# Altium footprint library PCB-PCEIOT.PcbLib: 29 footprints (part 1 of 2)
Each footprint in its own frame and in the unit in brackets; x right, y up, seen from the top. Pads: shape width x height; smd on the part's side, far side on the other; paste and mask are expansions set on the pad; w line width, h text height; cw(c..) or ccw(c..) is an arc to the next point about the centre after c.
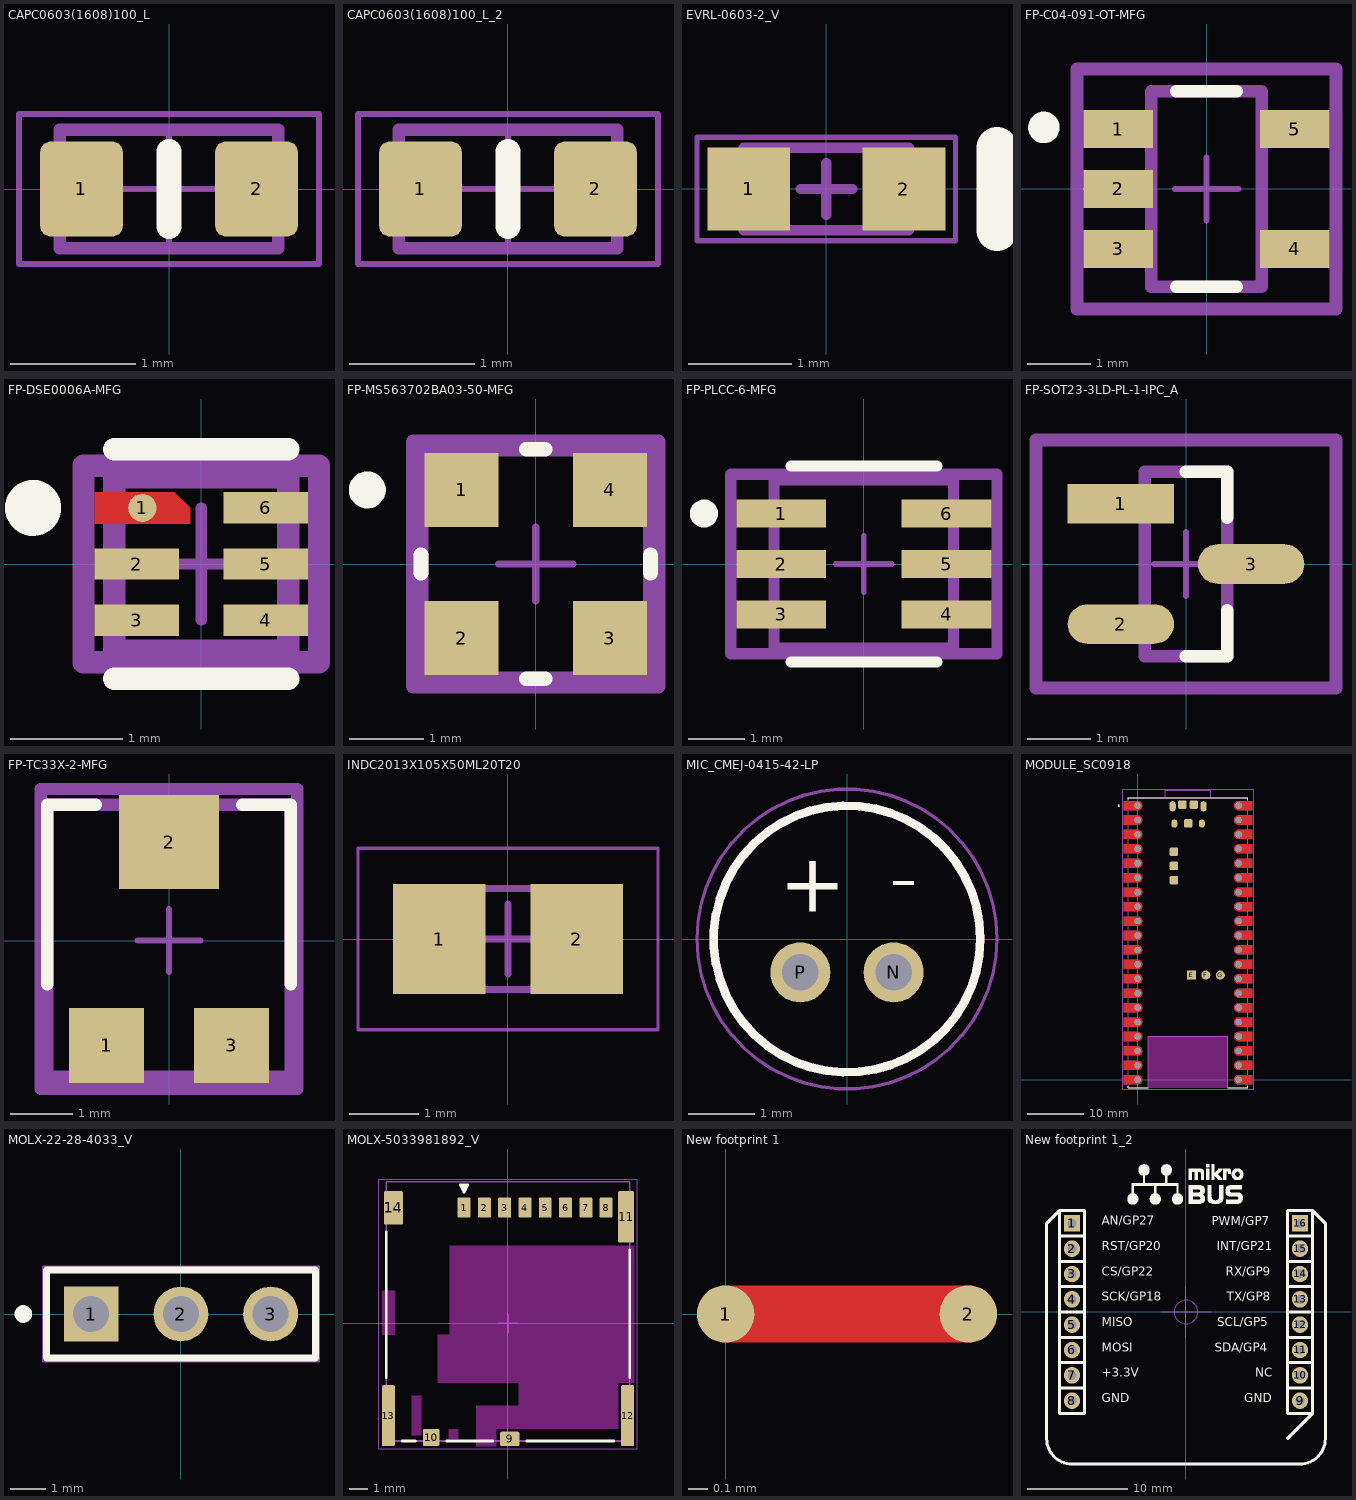
[diagram p0: the footprints below, top view; thin cyan lines are the x and y axes]

## CAPC0603(1608)100_L [mm] "Chip Capacitor, Body 1.6x0.8mm, Height 1.0mm, IPC High Density"
height 1
pads (2):
  rrect25% 0.66x0.76 smd: 1(-0.7,0) 2(0.7,0)
Top Overlay:
  lines w0.2: 0,-0.3 0,0.3
Top Courtyard:
  lines w0.05: -0.475,0 0.475,0 ; 0,-0.475 0,0.475 ; -1.2,-0.6 1.2,-0.6 1.2,0.6 -1.2,0.6 -1.2,-0.6
Top Assembly:
  lines w0.1: -0.875,-0.475 -0.875,0.475 0.875,0.475 0.875,-0.475 -0.875,-0.475
Top Designator:
  text ".Designator" at -1.27,-0.127 h0.6
3D body "CAPC1608X95N EIA 0603.STEP": height 0.95, standoff 0, extent -0.8,-0.4 0.8,0.4

## CAPC0603(1608)100_L_2 [mm]
pads (2):
  rrect25% 0.66x0.76 smd: 1(-0.7,0) 2(0.7,0)
Top Overlay:
  lines w0.2: 0,-0.3 0,0.3
Top Courtyard:
  lines w0.05: -0.475,0 0.475,0 ; 0,-0.475 0,0.475 ; -1.2,-0.6 1.2,-0.6 1.2,0.6 -1.2,0.6 -1.2,-0.6
Top Assembly:
  lines w0.1: -0.875,-0.475 -0.875,0.475 0.875,0.475 0.875,-0.475 -0.875,-0.475
Top Designator:
  text ".Designator" at -1.27,-0.127 h1.5
3D body "CAPC1608X95N EIA 0603.STEP": height 0.95, standoff 0, extent -0.8,-0.4 0.8,0.4

## EVRL-0603-2_V [mm] "SMD, 2-Leads, Body 1.6x0.8mm"
height 0.5
pads (2):
  rect 0.8x0.8 smd: 1(-0.75,0) 2(0.75,0)
Top Overlay:
  lines w0.4: 1.65,-0.4 1.65,0.4
Mechanical 13:
  lines w0.1: -0.8,-0.4 0.8,-0.4 0.8,0.4 -0.8,0.4 -0.8,-0.4
Mechanical 15:
  lines w0.05: -1.25,-0.5 1.25,-0.5 1.25,0.5 -1.25,0.5 -1.25,-0.5
  lines w0.1: -0.25,0 0.25,0 ; 0,-0.25 0,0.25
3D body: height 0.15, standoff 0, extent -0.8,-0.4 0.8,0.4
3D body: height 0.5, standoff 0, extent -0.5,-0.4 0.5,0.4

## FP-C04-091-OT-MFG [mm]
height 0.6
pads (5):
  rect 1.1x0.6 smd paste+0 mask+0: 1(-1.4,0.95) 2(-1.4,0) 3(-1.4,-0.95) 4(1.4,-0.95) 5(1.4,0.95)
Top Overlay:
  circle w0.25: c-2.575,0.975 r0.125
  lines w0.2: -0.475,-1.55 0.475,-1.55 ; -0.475,1.55 0.475,1.55
Top 3D Body:
  lines w0.2: -0.875,-1.55 -0.875,1.55 0.875,1.55 0.875,-1.55 -0.875,-1.55
Top Courtyard:
  lines w0.2: -2.05,-1.9 -2.05,1.9 2.05,1.9 2.05,-1.9 -2.05,-1.9
Top Assembly:
  lines w0.2: -2.05,-1.9 -2.05,1.9 2.05,1.9 2.05,-1.9 -2.05,-1.9
  text ".Designator" at 0,-0.884 h1
Top Component Center:
  lines w0.1: -0.5,0 0.5,0 ; 0,-0.5 0,0.5
3D body "SOT-23-5_MC_MCH.step": height 1.45, standoff 0, extent -1.6,-1.549 1.6,1.549

## FP-DSE0006A-MFG [mm]
height 0.6
pads (6):
  round 0.252 smd paste-1000 mask+0: 1(-0.525,0.5)
  rect 0.75x0.28 smd paste-1000 mask+0: 2(-0.575,0) 3(-0.575,-0.5) 4(0.575,-0.5) 5(0.575,0) 6(0.575,0.5)
Top Layer:
  region: -0.95,0.64 -0.24,0.64 -0.1,0.5 -0.1,0.36 -0.95,0.36
Top Overlay:
  circle w0.25: c-1.5,0.5 r0.125
  lines w0.2: -0.775,-1.025 0.775,-1.025 ; -0.775,1.025 0.775,1.025
Top Paste:
  rectangle: -0.925,0.385 -0.225,0.615
  rectangle: -0.925,-0.115 -0.225,0.115
  rectangle: -0.925,-0.615 -0.225,-0.385
  rectangle: 0.225,0.385 0.925,0.615
  rectangle: 0.225,-0.115 0.925,0.115
  rectangle: 0.225,-0.615 0.925,-0.385
Top 3D Body:
  lines w0.2: -0.775,-0.775 -0.775,0.775 0.775,0.775 0.775,-0.775 -0.775,-0.775
Top Courtyard:
  lines w0.2: -1.05,-0.875 -1.05,0.875 1.05,0.875 1.05,-0.875 -1.05,-0.875
Top Assembly:
  lines w0.2: -1.05,-0.875 -1.05,0.875 1.05,0.875 1.05,-0.875 -1.05,-0.875
  text ".Designator" at 0,-0.695 h1
Top Component Center:
  lines w0.1: -0.5,0 0.5,0 ; 0,-0.5 0,0.5
3D body "IC_Texas_Instruments_BQ29700DSET_eec.STEP": height 0.25, standoff 0, extent -1.05,-0.875 1.05,0.875

## FP-MS563702BA03-50-MFG [mm]
pads (4):
  rect 1x1 smd paste+0 mask+0.001: 1(-1,1) 2(-1,-1) 3(1,-1) 4(1,1)
Top Overlay:
  circle w0.25: c-2.275,1 r0.125
  lines w0.2: -1.55,-0.125 -1.55,0.125 ; -0.125,-1.55 0.125,-1.55 ; -0.125,1.55 0.125,1.55 ; 1.55,-0.125 1.55,0.125
Top 3D Body:
  lines w0.2: -1.55,-1.55 1.55,-1.55 1.55,1.55 -1.55,1.55 -1.55,-1.55
Top Courtyard:
  lines w0.2: -1.65,-1.65 1.65,-1.65 1.65,1.65 -1.65,1.65 -1.65,-1.65
Top Assembly:
  lines w0.2: -1.65,-1.65 1.65,-1.65 1.65,1.65 -1.65,1.65 -1.65,-1.65
  text ".Designator" at 0,0.188 h1
Top Component Center:
  lines w0.1: -0.5,0 0.5,0 ; 0,-0.5 0,0.5
3D body "IC_Measurement_Specialties_MS563702BA03-50_eec.STEP": height 0.25, standoff 0, extent -1.65,-1.65 1.65,1.65

## FP-PLCC-6-MFG [mm]
pads (6):
  rect 1.6x0.5 smd paste+0 mask+0.05: 1(-1.475,0.9) 2(-1.475,0) 3(-1.475,-0.9) 4(1.475,-0.9) 5(1.475,0) 6(1.475,0.9)
Top Overlay:
  circle w0.25: c-2.85,0.9 r0.125
  lines w0.2: -1.3,-1.75 1.3,-1.75 ; -1.3,1.75 1.3,1.75
Top 3D Body:
  lines w0.2: -1.6,-1.5 -1.6,1.5 1.6,1.5 1.6,-1.5 -1.6,-1.5
Top Courtyard:
  lines w0.2: -2.375,-1.6 -2.375,1.6 2.375,1.6 2.375,-1.6 -2.375,-1.6
Top Assembly:
  lines w0.2: -2.375,-1.6 -2.375,1.6 2.375,1.6 2.375,-1.6 -2.375,-1.6
  text ".Designator" at 0,0.188 h1
Top Component Center:
  lines w0.1: -0.5,0 0.5,0 ; 0,-0.5 0,0.5
3D body "Diode_Broadcom_ASMT-YTD7-0AA02_eec.STEP": height 0.25, standoff 0, extent -2.375,-1.6 2.375,1.6

## FP-SOT23-3LD-PL-1-IPC_A [mm]
pads (3):
  rect 1.684x0.627 smd paste+0 mask+0: 1(-1.03,0.95)
  rrect100% 1.684x0.627 smd paste+0 mask+0: 2(-1.03,-0.95) 3(1.03,0)
Top Overlay:
  lines w0.2: 0,-1.46 0.65,-1.46 0.65,-0.73 ; 0,1.46 0.65,1.46 0.65,0.73
Top 3D Body:
  lines w0.2: -0.65,-1.46 0.65,-1.46 0.65,1.46 -0.65,1.46 -0.65,-1.46
Top Courtyard:
  lines w0.2: -2.372,-1.96 2.372,-1.96 2.372,1.96 -2.372,1.96 -2.372,-1.96
Top Assembly:
  lines w0.2: -2.372,-1.96 2.372,-1.96 2.372,1.96 -2.372,1.96 -2.372,-1.96
  text ".Designator" at 0,0 h1
Top Component Center:
  lines w0.1: -0.5,0 0.5,0 ; 0,-0.5 0,0.5
3D body "IC_Microchip_LM4040DYM3-2_5-TR_eec.STEP": height 0.25, standoff 0, extent -2.372,-1.96 2.372,1.96

## FP-TC33X-2-MFG [mm]
height 0.6
pads (3):
  rect 1.2x1.2 smd paste+0 mask+0: 1(-1,-1.675) 3(1,-1.675)
  rect 1.6x1.5 smd paste+0 mask+0: 2(0,1.575)
Top Overlay:
  lines w0.2: -1.95,-0.7 -1.95,2.175 -1.175,2.175 ; 1.175,2.175 1.95,2.175 1.95,-0.7
Top 3D Body:
  lines w0.2: -1.95,-2.175 1.95,-2.175 1.95,2.175 -1.95,2.175 -1.95,-2.175
Top Courtyard:
  lines w0.2: -2.05,-2.375 2.05,-2.375 2.05,2.425 -2.05,2.425 -2.05,-2.375
Top Assembly:
  lines w0.2: -2.05,-2.375 2.05,-2.375 2.05,2.425 -2.05,2.425 -2.05,-2.375
  text ".Designator" at 0,0.024 h1
Top Component Center:
  lines w0.1: -0.5,0 0.5,0 ; 0,-0.5 0,0.5
3D body "Res_Bourns_TC33X-2-104E_eec.STEP": height 1.5, standoff 0, extent -1.8,-1.9 1.8,1.9

## INDC2013X105X50ML20T20 [mm] "Chip Inductor, 2-Leads, Body 2.2x1.45mm, IPC Low Density"
height 1.05
pads (2):
  rect 1.33x1.57 smd: 1(-0.985,0) 2(0.985,0)
Mechanical 13:
  lines w0.1: -1.1,-0.725 1.1,-0.725 1.1,0.725 -1.1,0.725 -1.1,-0.725
Mechanical 15:
  lines w0.05: -2.15,-1.3 2.15,-1.3 2.15,1.3 -2.15,1.3 -2.15,-1.3
  lines w0.1: -0.5,0 0.5,0 ; 0,-0.5 0,0.5
3D body "INDC2013X11M.step": height 1.05, standoff 0, extent -1.1,-0.725 1.1,0.725

## MIC_CMEJ-0415-42-LP [mm]
height 1.7
pads (2):
  round 0.9 hole 0.55: N(0.7,-0.5) P(-0.7,-0.5)
Top Overlay:
  circle w0.127: c0,0 r2
  text "-" at 0.635,0.254 h1.5
  text "+" at -1.016,0.127 h1.5
Mechanical 13:
  circle w0.127: c0,0 r2
Mechanical 15:
  circle w0.05: c0,0 r2.25
3D body "CUI_DEVICES_CMEJ-0415-42-LP.step": height 1.88, standoff -2.67, extent -1.997,-1.995 1.997,2.005

## MODULE_SC0918 [mm]
height 3.6
pads (53):
  round 1.125 hole 1.1 paste+0: 1(0,48.26) 2(0,45.72) 3(0,43.18) 4(0,40.64) 5(0,38.1) 6(0,35.56) 7(0,33.02) 8(0,30.48) 9(0,27.94) 10(0,25.4) 11(0,22.86) 12(0,20.32) 13(0,17.78) 14(0,15.24) 15(0,12.7) 16(0,10.16) 17(0,7.62) 18(0,5.08) 19(0,2.54) 20(0,0) 21(17.78,0) 22(17.78,2.54) 23(17.78,5.08) 24(17.78,7.62) 25(17.78,10.16) 26(17.78,12.7) 27(17.78,15.24) 28(17.78,17.78) 29(17.78,20.32) 30(17.78,22.86) 31(17.78,25.4) 32(17.78,27.94) 33(17.78,30.48) 34(17.78,33.02) 35(17.78,35.56) 36(17.78,38.1) 37(17.78,40.64) 38(17.78,43.18) 39(17.78,45.72) 40(17.78,48.26)
  oval 1.1x1.8 smd: A(6.168,48.128) B(11.618,48.128)
  oval 1.05x1.45 smd: C(6.468,45.098) D(11.318,45.098)
  rect 1.575x1.575 smd: E(9.477,18.428)
  round 1.575 smd: F(12.017,18.428) G(14.557,18.428)
  rrect40% 1.5x1.5 smd: TP1(8.893,45.128) TP2(9.893,48.428) TP3(7.893,48.428) TP4(6.393,40.128) TP5(6.393,37.628) TP6(6.393,35.128)
Top Layer:
  region: 17.78,13.5 20.177,13.502 20.177,11.902 17.78,11.9 17.728,11.9 17.624,11.914 17.522,11.941 17.425,11.981 17.335,12.033 17.251,12.097 17.177,12.171 17.113,12.255 17.061,12.345 17.021,12.442 16.994,12.544 16.98,12.648 16.98,12.7 16.98,12.752 16.994,12.856 17.021,12.958 17.061,13.055 17.113,13.145 17.177,13.229 17.251,13.303 17.335,13.367 17.425,13.419 17.522,13.459 17.624,13.486 17.728,13.5
  region: 17.78,10.96 20.177,10.962 20.177,9.362 17.78,9.36 17.728,9.36 17.624,9.374 17.522,9.401 17.425,9.441 17.335,9.493 17.251,9.557 17.177,9.631 17.113,9.715 17.061,9.805 17.021,9.902 16.994,10.004 16.98,10.108 16.98,10.16 16.98,10.212 16.994,10.316 17.021,10.418 17.061,10.515 17.113,10.605 17.177,10.689 17.251,10.763 17.335,10.827 17.425,10.879 17.522,10.919 17.624,10.946 17.728,10.96
  region: 17.78,8.42 20.177,8.422 20.177,6.822 17.78,6.82 17.728,6.82 17.624,6.834 17.522,6.861 17.425,6.901 17.335,6.953 17.251,7.017 17.177,7.091 17.113,7.175 17.061,7.265 17.021,7.362 16.994,7.464 16.98,7.568 16.98,7.62 16.98,7.672 16.994,7.776 17.021,7.878 17.061,7.975 17.113,8.065 17.177,8.149 17.251,8.223 17.335,8.287 17.425,8.339 17.522,8.379 17.624,8.406 17.728,8.42
  region: 17.78,5.88 20.177,5.882 20.177,4.282 17.78,4.28 17.728,4.28 17.624,4.294 17.522,4.321 17.425,4.361 17.335,4.413 17.251,4.477 17.177,4.551 17.113,4.635 17.061,4.725 17.021,4.822 16.994,4.924 16.98,5.028 16.98,5.08 16.98,5.132 16.994,5.236 17.021,5.338 17.061,5.435 17.113,5.525 17.177,5.609 17.251,5.683 17.335,5.747 17.425,5.799 17.522,5.839 17.624,5.866 17.728,5.88
  region: 17.78,3.34 20.177,3.342 20.177,1.742 17.78,1.74 17.728,1.74 17.624,1.754 17.522,1.781 17.425,1.821 17.335,1.873 17.251,1.937 17.177,2.011 17.113,2.095 17.061,2.185 17.021,2.282 16.994,2.384 16.98,2.488 16.98,2.54 16.98,2.592 16.994,2.696 17.021,2.798 17.061,2.895 17.113,2.985 17.177,3.069 17.251,3.143 17.335,3.207 17.425,3.259 17.522,3.299 17.624,3.326 17.728,3.34
  region: 0,-0.8 -2.397,-0.802 -2.397,0.798 0,0.8 0.052,0.8 0.156,0.786 0.258,0.759 0.355,0.719 0.445,0.667 0.529,0.603 0.603,0.529 0.667,0.445 0.719,0.355 0.759,0.258 0.786,0.156 0.8,0.052 0.8,0 0.8,-0.052 0.786,-0.156 0.759,-0.258 0.719,-0.355 0.667,-0.445 0.603,-0.529 0.529,-0.603 0.445,-0.667 0.355,-0.719 0.258,-0.759 0.156,-0.786 0.052,-0.8
  region: 0,1.74 -2.397,1.738 -2.397,3.338 0,3.34 0.052,3.34 0.156,3.326 0.258,3.299 0.355,3.259 0.445,3.207 0.529,3.143 0.603,3.069 0.667,2.985 0.719,2.895 0.759,2.798 0.786,2.696 0.8,2.592 0.8,2.54 0.8,2.488 0.786,2.384 0.759,2.282 0.719,2.185 0.667,2.095 0.603,2.011 0.529,1.937 0.445,1.873 0.355,1.821 0.258,1.781 0.156,1.754 0.052,1.74
  region: 0,4.28 -2.397,4.278 -2.397,5.878 0,5.88 0.052,5.88 0.156,5.866 0.258,5.839 0.355,5.799 0.445,5.747 0.529,5.683 0.603,5.609 0.667,5.525 0.719,5.435 0.759,5.338 0.786,5.236 0.8,5.132 0.8,5.08 0.8,5.028 0.786,4.924 0.759,4.822 0.719,4.725 0.667,4.635 0.603,4.551 0.529,4.477 0.445,4.413 0.355,4.361 0.258,4.321 0.156,4.294 0.052,4.28
  region: 0,6.82 -2.397,6.818 -2.397,8.418 0,8.42 0.052,8.42 0.156,8.406 0.258,8.379 0.355,8.339 0.445,8.287 0.529,8.223 0.603,8.149 0.667,8.065 0.719,7.975 0.759,7.878 0.786,7.776 0.8,7.672 0.8,7.62 0.8,7.568 0.786,7.464 0.759,7.362 0.719,7.265 0.667,7.175 0.603,7.091 0.529,7.017 0.445,6.953 0.355,6.901 0.258,6.861 0.156,6.834 0.052,6.82
  region: 0,9.36 -2.397,9.358 -2.397,10.958 0,10.96 0.052,10.96 0.156,10.946 0.258,10.919 0.355,10.879 0.445,10.827 0.529,10.763 0.603,10.689 0.667,10.605 0.719,10.515 0.759,10.418 0.786,10.316 0.8,10.212 0.8,10.16 0.8,10.108 0.786,10.004 0.759,9.902 0.719,9.805 0.667,9.715 0.603,9.631 0.529,9.557 0.445,9.493 0.355,9.441 0.258,9.401 0.156,9.374 0.052,9.36
  region: 0,11.9 -2.397,11.898 -2.397,13.498 0,13.5 0.052,13.5 0.156,13.486 0.258,13.459 0.355,13.419 0.445,13.367 0.529,13.303 0.603,13.229 0.667,13.145 0.719,13.055 0.759,12.958 0.786,12.856 0.8,12.752 0.8,12.7 0.8,12.648 0.786,12.544 0.759,12.442 0.719,12.345 0.667,12.255 0.603,12.171 0.529,12.097 0.445,12.033 0.355,11.981 0.258,11.941 0.156,11.914 0.052,11.9
  region: 0,14.44 -2.397,14.438 -2.397,16.038 0,16.04 0.052,16.04 0.156,16.026 0.258,15.999 0.355,15.959 0.445,15.907 0.529,15.843 0.603,15.769 0.667,15.685 0.719,15.595 0.759,15.498 0.786,15.396 0.8,15.292 0.8,15.24 0.8,15.188 0.786,15.084 0.759,14.982 0.719,14.885 0.667,14.795 0.603,14.711 0.529,14.637 0.445,14.573 0.355,14.521 0.258,14.481 0.156,14.454 0.052,14.44
  region: 0,16.98 -2.397,16.978 -2.397,18.578 0,18.58 0.052,18.58 0.156,18.566 0.258,18.539 0.355,18.499 0.445,18.447 0.529,18.383 0.603,18.309 0.667,18.225 0.719,18.135 0.759,18.038 0.786,17.936 0.8,17.832 0.8,17.78 0.8,17.728 0.786,17.624 0.759,17.522 0.719,17.425 0.667,17.335 0.603,17.251 0.529,17.177 0.445,17.113 0.355,17.061 0.258,17.021 0.156,16.994 0.052,16.98
  region: 0,19.52 -2.397,19.518 -2.397,21.118 0,21.12 0.052,21.12 0.156,21.106 0.258,21.079 0.355,21.039 0.445,20.987 0.529,20.923 0.603,20.849 0.667,20.765 0.719,20.675 0.759,20.578 0.786,20.476 0.8,20.372 0.8,20.32 0.8,20.268 0.786,20.164 0.759,20.062 0.719,19.965 0.667,19.875 0.603,19.791 0.529,19.717 0.445,19.653 0.355,19.601 0.258,19.561 0.156,19.534 0.052,19.52
  region: 0,22.06 -2.397,22.058 -2.397,23.658 0,23.66 0.052,23.66 0.156,23.646 0.258,23.619 0.355,23.579 0.445,23.527 0.529,23.463 0.603,23.389 0.667,23.305 0.719,23.215 0.759,23.118 0.786,23.016 0.8,22.912 0.8,22.86 0.8,22.808 0.786,22.704 0.759,22.602 0.719,22.505 0.667,22.415 0.603,22.331 0.529,22.257 0.445,22.193 0.355,22.141 0.258,22.101 0.156,22.074 0.052,22.06
  region: 0,24.6 -2.397,24.598 -2.397,26.198 0,26.2 0.052,26.2 0.156,26.186 0.258,26.159 0.355,26.119 0.445,26.067 0.529,26.003 0.603,25.929 0.667,25.845 0.719,25.755 0.759,25.658 0.786,25.556 0.8,25.452 0.8,25.4 0.8,25.348 0.786,25.244 0.759,25.142 0.719,25.045 0.667,24.955 0.603,24.871 0.529,24.797 0.445,24.733 0.355,24.681 0.258,24.641 0.156,24.614 0.052,24.6
  region: 0,27.14 -2.397,27.138 -2.397,28.738 0,28.74 0.052,28.74 0.156,28.726 0.258,28.699 0.355,28.659 0.445,28.607 0.529,28.543 0.603,28.469 0.667,28.385 0.719,28.295 0.759,28.198 0.786,28.096 0.8,27.992 0.8,27.94 0.8,27.888 0.786,27.784 0.759,27.682 0.719,27.585 0.667,27.495 0.603,27.411 0.529,27.337 0.445,27.273 0.355,27.221 0.258,27.181 0.156,27.154 0.052,27.14
  region: 0,29.68 -2.397,29.678 -2.397,31.278 0,31.28 0.052,31.28 0.156,31.266 0.258,31.239 0.355,31.199 0.445,31.147 0.529,31.083 0.603,31.009 0.667,30.925 0.719,30.835 0.759,30.738 0.786,30.636 0.8,30.532 0.8,30.48 0.8,30.428 0.786,30.324 0.759,30.222 0.719,30.125 0.667,30.035 0.603,29.951 0.529,29.877 0.445,29.813 0.355,29.761 0.258,29.721 0.156,29.694 0.052,29.68
  region: 0,32.22 -2.397,32.218 -2.397,33.818 0,33.82 0.052,33.82 0.156,33.806 0.258,33.779 0.355,33.739 0.445,33.687 0.529,33.623 0.603,33.549 0.667,33.465 0.719,33.375 0.759,33.278 0.786,33.176 0.8,33.072 0.8,33.02 0.8,32.968 0.786,32.864 0.759,32.762 0.719,32.665 0.667,32.575 0.603,32.491 0.529,32.417 0.445,32.353 0.355,32.301 0.258,32.261 0.156,32.234 0.052,32.22
  region: 0,34.76 -2.397,34.758 -2.397,36.358 0,36.36 0.052,36.36 0.156,36.346 0.258,36.319 0.355,36.279 0.445,36.227 0.529,36.163 0.603,36.089 0.667,36.005 0.719,35.915 0.759,35.818 0.786,35.716 0.8,35.612 0.8,35.56 0.8,35.508 0.786,35.404 0.759,35.302 0.719,35.205 0.667,35.115 0.603,35.031 0.529,34.957 0.445,34.893 0.355,34.841 0.258,34.801 0.156,34.774 0.052,34.76
  region: 0,37.3 -2.397,37.298 -2.397,38.898 0,38.9 0.052,38.9 0.156,38.886 0.258,38.859 0.355,38.819 0.445,38.767 0.529,38.703 0.603,38.629 0.667,38.545 0.719,38.455 0.759,38.358 0.786,38.256 0.8,38.152 0.8,38.1 0.8,38.048 0.786,37.944 0.759,37.842 0.719,37.745 0.667,37.655 0.603,37.571 0.529,37.497 0.445,37.433 0.355,37.381 0.258,37.341 0.156,37.314 0.052,37.3
  region: 0,39.84 -2.397,39.838 -2.397,41.438 0,41.44 0.052,41.44 0.156,41.426 0.258,41.399 0.355,41.359 0.445,41.307 0.529,41.243 0.603,41.169 0.667,41.085 0.719,40.995 0.759,40.898 0.786,40.796 0.8,40.692 0.8,40.64 0.8,40.588 0.786,40.484 0.759,40.382 0.719,40.285 0.667,40.195 0.603,40.111 0.529,40.037 0.445,39.973 0.355,39.921 0.258,39.881 0.156,39.854 0.052,39.84
  region: 0,42.38 -2.397,42.378 -2.397,43.978 0,43.98 0.052,43.98 0.156,43.966 0.258,43.939 0.355,43.899 0.445,43.847 0.529,43.783 0.603,43.709 0.667,43.625 0.719,43.535 0.759,43.438 0.786,43.336 0.8,43.232 0.8,43.18 0.8,43.128 0.786,43.024 0.759,42.922 0.719,42.825 0.667,42.735 0.603,42.651 0.529,42.577 0.445,42.513 0.355,42.461 0.258,42.421 0.156,42.394 0.052,42.38
  region: 0,44.92 -2.397,44.918 -2.397,46.518 0,46.52 0.052,46.52 0.156,46.506 0.258,46.479 0.355,46.439 0.445,46.387 0.529,46.323 0.603,46.249 0.667,46.165 0.719,46.075 0.759,45.978 0.786,45.876 0.8,45.772 0.8,45.72 0.8,45.668 0.786,45.564 0.759,45.462 0.719,45.365 0.667,45.275 0.603,45.191 0.529,45.117 0.445,45.053 0.355,45.001 0.258,44.961 0.156,44.934 0.052,44.92
  region: 17.78,16.04 20.177,16.042 20.177,14.442 17.78,14.44 17.728,14.44 17.624,14.454 17.522,14.481 17.425,14.521 17.335,14.573 17.251,14.637 17.177,14.711 17.113,14.795 17.061,14.885 17.021,14.982 16.994,15.084 16.98,15.188 16.98,15.24 16.98,15.292 16.994,15.396 17.021,15.498 17.061,15.595 17.113,15.685 17.177,15.769 17.251,15.843 17.335,15.907 17.425,15.959 17.522,15.999 17.624,16.026 17.728,16.04
  region: 17.78,18.58 20.177,18.582 20.177,16.982 17.78,16.98 17.728,16.98 17.624,16.994 17.522,17.021 17.425,17.061 17.335,17.113 17.251,17.177 17.177,17.251 17.113,17.335 17.061,17.425 17.021,17.522 16.994,17.624 16.98,17.728 16.98,17.78 16.98,17.832 16.994,17.936 17.021,18.038 17.061,18.135 17.113,18.225 17.177,18.309 17.251,18.383 17.335,18.447 17.425,18.499 17.522,18.539 17.624,18.566 17.728,18.58
  region: 17.78,21.12 20.177,21.122 20.177,19.522 17.78,19.52 17.728,19.52 17.624,19.534 17.522,19.561 17.425,19.601 17.335,19.653 17.251,19.717 17.177,19.791 17.113,19.875 17.061,19.965 17.021,20.062 16.994,20.164 16.98,20.268 16.98,20.32 16.98,20.372 16.994,20.476 17.021,20.578 17.061,20.675 17.113,20.765 17.177,20.849 17.251,20.923 17.335,20.987 17.425,21.039 17.522,21.079 17.624,21.106 17.728,21.12
  region: 17.78,23.66 20.177,23.662 20.177,22.062 17.78,22.06 17.728,22.06 17.624,22.074 17.522,22.101 17.425,22.141 17.335,22.193 17.251,22.257 17.177,22.331 17.113,22.415 17.061,22.505 17.021,22.602 16.994,22.704 16.98,22.808 16.98,22.86 16.98,22.912 16.994,23.016 17.021,23.118 17.061,23.215 17.113,23.305 17.177,23.389 17.251,23.463 17.335,23.527 17.425,23.579 17.522,23.619 17.624,23.646 17.728,23.66
  region: 17.78,26.2 20.177,26.202 20.177,24.602 17.78,24.6 17.728,24.6 17.624,24.614 17.522,24.641 17.425,24.681 17.335,24.733 17.251,24.797 17.177,24.871 17.113,24.955 17.061,25.045 17.021,25.142 16.994,25.244 16.98,25.348 16.98,25.4 16.98,25.452 16.994,25.556 17.021,25.658 17.061,25.755 17.113,25.845 17.177,25.929 17.251,26.003 17.335,26.067 17.425,26.119 17.522,26.159 17.624,26.186 17.728,26.2
  region: 17.78,28.74 20.177,28.742 20.177,27.142 17.78,27.14 17.728,27.14 17.624,27.154 17.522,27.181 17.425,27.221 17.335,27.273 17.251,27.337 17.177,27.411 17.113,27.495 17.061,27.585 17.021,27.682 16.994,27.784 16.98,27.888 16.98,27.94 16.98,27.992 16.994,28.096 17.021,28.198 17.061,28.295 17.113,28.385 17.177,28.469 17.251,28.543 17.335,28.607 17.425,28.659 17.522,28.699 17.624,28.726 17.728,28.74
  region: 17.78,31.28 20.177,31.282 20.177,29.682 17.78,29.68 17.728,29.68 17.624,29.694 17.522,29.721 17.425,29.761 17.335,29.813 17.251,29.877 17.177,29.951 17.113,30.035 17.061,30.125 17.021,30.222 16.994,30.324 16.98,30.428 16.98,30.48 16.98,30.532 16.994,30.636 17.021,30.738 17.061,30.835 17.113,30.925 17.177,31.009 17.251,31.083 17.335,31.147 17.425,31.199 17.522,31.239 17.624,31.266 17.728,31.28
  region: 17.78,33.82 20.177,33.822 20.177,32.222 17.78,32.22 17.728,32.22 17.624,32.234 17.522,32.261 17.425,32.301 17.335,32.353 17.251,32.417 17.177,32.491 17.113,32.575 17.061,32.665 17.021,32.762 16.994,32.864 16.98,32.968 16.98,33.02 16.98,33.072 16.994,33.176 17.021,33.278 17.061,33.375 17.113,33.465 17.177,33.549 17.251,33.623 17.335,33.687 17.425,33.739 17.522,33.779 17.624,33.806 17.728,33.82
  region: 17.78,36.36 20.177,36.362 20.177,34.762 17.78,34.76 17.728,34.76 17.624,34.774 17.522,34.801 17.425,34.841 17.335,34.893 17.251,34.957 17.177,35.031 17.113,35.115 17.061,35.205 17.021,35.302 16.994,35.404 16.98,35.508 16.98,35.56 16.98,35.612 16.994,35.716 17.021,35.818 17.061,35.915 17.113,36.005 17.177,36.089 17.251,36.163 17.335,36.227 17.425,36.279 17.522,36.319 17.624,36.346 17.728,36.36
  region: 17.78,38.9 20.177,38.902 20.177,37.302 17.78,37.3 17.728,37.3 17.624,37.314 17.522,37.341 17.425,37.381 17.335,37.433 17.251,37.497 17.177,37.571 17.113,37.655 17.061,37.745 17.021,37.842 16.994,37.944 16.98,38.048 16.98,38.1 16.98,38.152 16.994,38.256 17.021,38.358 17.061,38.455 17.113,38.545 17.177,38.629 17.251,38.703 17.335,38.767 17.425,38.819 17.522,38.859 17.624,38.886 17.728,38.9
  region: 17.78,41.44 20.177,41.442 20.177,39.842 17.78,39.84 17.728,39.84 17.624,39.854 17.522,39.881 17.425,39.921 17.335,39.973 17.251,40.037 17.177,40.111 17.113,40.195 17.061,40.285 17.021,40.382 16.994,40.484 16.98,40.588 16.98,40.64 16.98,40.692 16.994,40.796 17.021,40.898 17.061,40.995 17.113,41.085 17.177,41.169 17.251,41.243 17.335,41.307 17.425,41.359 17.522,41.399 17.624,41.426 17.728,41.44
  region: 17.78,43.98 20.177,43.982 20.177,42.382 17.78,42.38 17.728,42.38 17.624,42.394 17.522,42.421 17.425,42.461 17.335,42.513 17.251,42.577 17.177,42.651 17.113,42.735 17.061,42.825 17.021,42.922 16.994,43.024 16.98,43.128 16.98,43.18 16.98,43.232 16.994,43.336 17.021,43.438 17.061,43.535 17.113,43.625 17.177,43.709 17.251,43.783 17.335,43.847 17.425,43.899 17.522,43.939 17.624,43.966 17.728,43.98
  region: 17.78,46.52 20.177,46.522 20.177,44.922 17.78,44.92 17.728,44.92 17.624,44.934 17.522,44.961 17.425,45.001 17.335,45.053 17.251,45.117 17.177,45.191 17.113,45.275 17.061,45.365 17.021,45.462 16.994,45.564 16.98,45.668 16.98,45.72 16.98,45.772 16.994,45.876 17.021,45.978 17.061,46.075 17.113,46.165 17.177,46.249 17.251,46.323 17.335,46.387 17.425,46.439 17.522,46.479 17.624,46.506 17.728,46.52
  region: 17.78,49.06 20.177,49.062 20.177,47.462 17.78,47.46 17.728,47.46 17.624,47.474 17.522,47.501 17.425,47.541 17.335,47.593 17.251,47.657 17.177,47.731 17.113,47.815 17.061,47.905 17.021,48.002 16.994,48.104 16.98,48.208 16.98,48.26 16.98,48.312 16.994,48.416 17.021,48.518 17.061,48.615 17.113,48.705 17.177,48.789 17.251,48.863 17.335,48.927 17.425,48.979 17.522,49.019 17.624,49.046 17.728,49.06
  region: 17.78,0.8 20.177,0.802 20.177,-0.798 17.78,-0.8 17.728,-0.8 17.624,-0.786 17.522,-0.759 17.425,-0.719 17.335,-0.667 17.251,-0.603 17.177,-0.529 17.113,-0.445 17.061,-0.355 17.021,-0.258 16.994,-0.156 16.98,-0.052 16.98,0 16.98,0.052 16.994,0.156 17.021,0.258 17.061,0.355 17.113,0.445 17.177,0.529 17.251,0.603 17.335,0.667 17.425,0.719 17.522,0.759 17.624,0.786 17.728,0.8
  region: 0,47.46 -2.397,47.458 -2.397,49.058 0,49.06 0.052,49.06 0.156,49.046 0.258,49.019 0.355,48.979 0.445,48.927 0.529,48.863 0.603,48.789 0.667,48.705 0.719,48.615 0.759,48.518 0.786,48.416 0.8,48.312 0.8,48.26 0.8,48.208 0.786,48.104 0.759,48.002 0.719,47.905 0.667,47.815 0.603,47.731 0.529,47.657 0.445,47.593 0.355,47.541 0.258,47.501 0.156,47.474 0.052,47.46
Bottom Layer:
  region: 17.78,13.5 20.177,13.502 20.177,11.902 17.78,11.9 17.728,11.9 17.624,11.914 17.522,11.941 17.425,11.981 17.335,12.033 17.251,12.097 17.177,12.171 17.113,12.255 17.061,12.345 17.021,12.442 16.994,12.544 16.98,12.648 16.98,12.7 16.98,12.752 16.994,12.856 17.021,12.958 17.061,13.055 17.113,13.145 17.177,13.229 17.251,13.303 17.335,13.367 17.425,13.419 17.522,13.459 17.624,13.486 17.728,13.5
  region: 17.78,10.96 20.177,10.962 20.177,9.362 17.78,9.36 17.728,9.36 17.624,9.374 17.522,9.401 17.425,9.441 17.335,9.493 17.251,9.557 17.177,9.631 17.113,9.715 17.061,9.805 17.021,9.902 16.994,10.004 16.98,10.108 16.98,10.16 16.98,10.212 16.994,10.316 17.021,10.418 17.061,10.515 17.113,10.605 17.177,10.689 17.251,10.763 17.335,10.827 17.425,10.879 17.522,10.919 17.624,10.946 17.728,10.96
  region: 17.78,8.42 20.177,8.422 20.177,6.822 17.78,6.82 17.728,6.82 17.624,6.834 17.522,6.861 17.425,6.901 17.335,6.953 17.251,7.017 17.177,7.091 17.113,7.175 17.061,7.265 17.021,7.362 16.994,7.464 16.98,7.568 16.98,7.62 16.98,7.672 16.994,7.776 17.021,7.878 17.061,7.975 17.113,8.065 17.177,8.149 17.251,8.223 17.335,8.287 17.425,8.339 17.522,8.379 17.624,8.406 17.728,8.42
  region: 17.78,5.88 20.177,5.882 20.177,4.282 17.78,4.28 17.728,4.28 17.624,4.294 17.522,4.321 17.425,4.361 17.335,4.413 17.251,4.477 17.177,4.551 17.113,4.635 17.061,4.725 17.021,4.822 16.994,4.924 16.98,5.028 16.98,5.08 16.98,5.132 16.994,5.236 17.021,5.338 17.061,5.435 17.113,5.525 17.177,5.609 17.251,5.683 17.335,5.747 17.425,5.799 17.522,5.839 17.624,5.866 17.728,5.88
  region: 17.78,3.34 20.177,3.342 20.177,1.742 17.78,1.74 17.728,1.74 17.624,1.754 17.522,1.781 17.425,1.821 17.335,1.873 17.251,1.937 17.177,2.011 17.113,2.095 17.061,2.185 17.021,2.282 16.994,2.384 16.98,2.488 16.98,2.54 16.98,2.592 16.994,2.696 17.021,2.798 17.061,2.895 17.113,2.985 17.177,3.069 17.251,3.143 17.335,3.207 17.425,3.259 17.522,3.299 17.624,3.326 17.728,3.34
  region: 0,-0.8 -2.397,-0.802 -2.397,0.798 0,0.8 0.052,0.8 0.156,0.786 0.258,0.759 0.355,0.719 0.445,0.667 0.529,0.603 0.603,0.529 0.667,0.445 0.719,0.355 0.759,0.258 0.786,0.156 0.8,0.052 0.8,0 0.8,-0.052 0.786,-0.156 0.759,-0.258 0.719,-0.355 0.667,-0.445 0.603,-0.529 0.529,-0.603 0.445,-0.667 0.355,-0.719 0.258,-0.759 0.156,-0.786 0.052,-0.8
  region: 0,1.74 -2.397,1.738 -2.397,3.338 0,3.34 0.052,3.34 0.156,3.326 0.258,3.299 0.355,3.259 0.445,3.207 0.529,3.143 0.603,3.069 0.667,2.985 0.719,2.895 0.759,2.798 0.786,2.696 0.8,2.592 0.8,2.54 0.8,2.488 0.786,2.384 0.759,2.282 0.719,2.185 0.667,2.095 0.603,2.011 0.529,1.937 0.445,1.873 0.355,1.821 0.258,1.781 0.156,1.754 0.052,1.74
  region: 0,4.28 -2.397,4.278 -2.397,5.878 0,5.88 0.052,5.88 0.156,5.866 0.258,5.839 0.355,5.799 0.445,5.747 0.529,5.683 0.603,5.609 0.667,5.525 0.719,5.435 0.759,5.338 0.786,5.236 0.8,5.132 0.8,5.08 0.8,5.028 0.786,4.924 0.759,4.822 0.719,4.725 0.667,4.635 0.603,4.551 0.529,4.477 0.445,4.413 0.355,4.361 0.258,4.321 0.156,4.294 0.052,4.28
  region: 0,6.82 -2.397,6.818 -2.397,8.418 0,8.42 0.052,8.42 0.156,8.406 0.258,8.379 0.355,8.339 0.445,8.287 0.529,8.223 0.603,8.149 0.667,8.065 0.719,7.975 0.759,7.878 0.786,7.776 0.8,7.672 0.8,7.62 0.8,7.568 0.786,7.464 0.759,7.362 0.719,7.265 0.667,7.175 0.603,7.091 0.529,7.017 0.445,6.953 0.355,6.901 0.258,6.861 0.156,6.834 0.052,6.82
  region: 0,9.36 -2.397,9.358 -2.397,10.958 0,10.96 0.052,10.96 0.156,10.946 0.258,10.919 0.355,10.879 0.445,10.827 0.529,10.763 0.603,10.689 0.667,10.605 0.719,10.515 0.759,10.418 0.786,10.316 0.8,10.212 0.8,10.16 0.8,10.108 0.786,10.004 0.759,9.902 0.719,9.805 0.667,9.715 0.603,9.631 0.529,9.557 0.445,9.493 0.355,9.441 0.258,9.401 0.156,9.374 0.052,9.36
  region: 0,11.9 -2.397,11.898 -2.397,13.498 0,13.5 0.052,13.5 0.156,13.486 0.258,13.459 0.355,13.419 0.445,13.367 0.529,13.303 0.603,13.229 0.667,13.145 0.719,13.055 0.759,12.958 0.786,12.856 0.8,12.752 0.8,12.7 0.8,12.648 0.786,12.544 0.759,12.442 0.719,12.345 0.667,12.255 0.603,12.171 0.529,12.097 0.445,12.033 0.355,11.981 0.258,11.941 0.156,11.914 0.052,11.9
  region: 0,14.44 -2.397,14.438 -2.397,16.038 0,16.04 0.052,16.04 0.156,16.026 0.258,15.999 0.355,15.959 0.445,15.907 0.529,15.843 0.603,15.769 0.667,15.685 0.719,15.595 0.759,15.498 0.786,15.396 0.8,15.292 0.8,15.24 0.8,15.188 0.786,15.084 0.759,14.982 0.719,14.885 0.667,14.795 0.603,14.711 0.529,14.637 0.445,14.573 0.355,14.521 0.258,14.481 0.156,14.454 0.052,14.44
  region: 0,16.98 -2.397,16.978 -2.397,18.578 0,18.58 0.052,18.58 0.156,18.566 0.258,18.539 0.355,18.499 0.445,18.447 0.529,18.383 0.603,18.309 0.667,18.225 0.719,18.135 0.759,18.038 0.786,17.936 0.8,17.832 0.8,17.78 0.8,17.728 0.786,17.624 0.759,17.522 0.719,17.425 0.667,17.335 0.603,17.251 0.529,17.177 0.445,17.113 0.355,17.061 0.258,17.021 0.156,16.994 0.052,16.98
  region: 0,19.52 -2.397,19.518 -2.397,21.118 0,21.12 0.052,21.12 0.156,21.106 0.258,21.079 0.355,21.039 0.445,20.987 0.529,20.923 0.603,20.849 0.667,20.765 0.719,20.675 0.759,20.578 0.786,20.476 0.8,20.372 0.8,20.32 0.8,20.268 0.786,20.164 0.759,20.062 0.719,19.965 0.667,19.875 0.603,19.791 0.529,19.717 0.445,19.653 0.355,19.601 0.258,19.561 0.156,19.534 0.052,19.52
  region: 0,22.06 -2.397,22.058 -2.397,23.658 0,23.66 0.052,23.66 0.156,23.646 0.258,23.619 0.355,23.579 0.445,23.527 0.529,23.463 0.603,23.389 0.667,23.305 0.719,23.215 0.759,23.118 0.786,23.016 0.8,22.912 0.8,22.86 0.8,22.808 0.786,22.704 0.759,22.602 0.719,22.505 0.667,22.415 0.603,22.331 0.529,22.257 0.445,22.193 0.355,22.141 0.258,22.101 0.156,22.074 0.052,22.06
  region: 0,24.6 -2.397,24.598 -2.397,26.198 0,26.2 0.052,26.2 0.156,26.186 0.258,26.159 0.355,26.119 0.445,26.067 0.529,26.003 0.603,25.929 0.667,25.845 0.719,25.755 0.759,25.658 0.786,25.556 0.8,25.452 0.8,25.4 0.8,25.348 0.786,25.244 0.759,25.142 0.719,25.045 0.667,24.955 0.603,24.871 0.529,24.797 0.445,24.733 0.355,24.681 0.258,24.641 0.156,24.614 0.052,24.6
  region: 0,27.14 -2.397,27.138 -2.397,28.738 0,28.74 0.052,28.74 0.156,28.726 0.258,28.699 0.355,28.659 0.445,28.607 0.529,28.543 0.603,28.469 0.667,28.385 0.719,28.295 0.759,28.198 0.786,28.096 0.8,27.992 0.8,27.94 0.8,27.888 0.786,27.784 0.759,27.682 0.719,27.585 0.667,27.495 0.603,27.411 0.529,27.337 0.445,27.273 0.355,27.221 0.258,27.181 0.156,27.154 0.052,27.14
  region: 0,29.68 -2.397,29.678 -2.397,31.278 0,31.28 0.052,31.28 0.156,31.266 0.258,31.239 0.355,31.199 0.445,31.147 0.529,31.083 0.603,31.009 0.667,30.925 0.719,30.835 0.759,30.738 0.786,30.636 0.8,30.532 0.8,30.48 0.8,30.428 0.786,30.324 0.759,30.222 0.719,30.125 0.667,30.035 0.603,29.951 0.529,29.877 0.445,29.813 0.355,29.761 0.258,29.721 0.156,29.694 0.052,29.68
  region: 0,32.22 -2.397,32.218 -2.397,33.818 0,33.82 0.052,33.82 0.156,33.806 0.258,33.779 0.355,33.739 0.445,33.687 0.529,33.623 0.603,33.549 0.667,33.465 0.719,33.375 0.759,33.278 0.786,33.176 0.8,33.072 0.8,33.02 0.8,32.968 0.786,32.864 0.759,32.762 0.719,32.665 0.667,32.575 0.603,32.491 0.529,32.417 0.445,32.353 0.355,32.301 0.258,32.261 0.156,32.234 0.052,32.22
  region: 0,34.76 -2.397,34.758 -2.397,36.358 0,36.36 0.052,36.36 0.156,36.346 0.258,36.319 0.355,36.279 0.445,36.227 0.529,36.163 0.603,36.089 0.667,36.005 0.719,35.915 0.759,35.818 0.786,35.716 0.8,35.612 0.8,35.56 0.8,35.508 0.786,35.404 0.759,35.302 0.719,35.205 0.667,35.115 0.603,35.031 0.529,34.957 0.445,34.893 0.355,34.841 0.258,34.801 0.156,34.774 0.052,34.76
  region: 0,37.3 -2.397,37.298 -2.397,38.898 0,38.9 0.052,38.9 0.156,38.886 0.258,38.859 0.355,38.819 0.445,38.767 0.529,38.703 0.603,38.629 0.667,38.545 0.719,38.455 0.759,38.358 0.786,38.256 0.8,38.152 0.8,38.1 0.8,38.048 0.786,37.944 0.759,37.842 0.719,37.745 0.667,37.655 0.603,37.571 0.529,37.497 0.445,37.433 0.355,37.381 0.258,37.341 0.156,37.314 0.052,37.3
  region: 0,39.84 -2.397,39.838 -2.397,41.438 0,41.44 0.052,41.44 0.156,41.426 0.258,41.399 0.355,41.359 0.445,41.307 0.529,41.243 0.603,41.169 0.667,41.085 0.719,40.995 0.759,40.898 0.786,40.796 0.8,40.692 0.8,40.64 0.8,40.588 0.786,40.484 0.759,40.382 0.719,40.285 0.667,40.195 0.603,40.111 0.529,40.037 0.445,39.973 0.355,39.921 0.258,39.881 0.156,39.854 0.052,39.84
  region: 0,42.38 -2.397,42.378 -2.397,43.978 0,43.98 0.052,43.98 0.156,43.966 0.258,43.939 0.355,43.899 0.445,43.847 0.529,43.783 0.603,43.709 0.667,43.625 0.719,43.535 0.759,43.438 0.786,43.336 0.8,43.232 0.8,43.18 0.8,43.128 0.786,43.024 0.759,42.922 0.719,42.825 0.667,42.735 0.603,42.651 0.529,42.577 0.445,42.513 0.355,42.461 0.258,42.421 0.156,42.394 0.052,42.38
  region: 0,44.92 -2.397,44.918 -2.397,46.518 0,46.52 0.052,46.52 0.156,46.506 0.258,46.479 0.355,46.439 0.445,46.387 0.529,46.323 0.603,46.249 0.667,46.165 0.719,46.075 0.759,45.978 0.786,45.876 0.8,45.772 0.8,45.72 0.8,45.668 0.786,45.564 0.759,45.462 0.719,45.365 0.667,45.275 0.603,45.191 0.529,45.117 0.445,45.053 0.355,45.001 0.258,44.961 0.156,44.934 0.052,44.92
  region: 17.78,16.04 20.177,16.042 20.177,14.442 17.78,14.44 17.728,14.44 17.624,14.454 17.522,14.481 17.425,14.521 17.335,14.573 17.251,14.637 17.177,14.711 17.113,14.795 17.061,14.885 17.021,14.982 16.994,15.084 16.98,15.188 16.98,15.24 16.98,15.292 16.994,15.396 17.021,15.498 17.061,15.595 17.113,15.685 17.177,15.769 17.251,15.843 17.335,15.907 17.425,15.959 17.522,15.999 17.624,16.026 17.728,16.04
  region: 17.78,18.58 20.177,18.582 20.177,16.982 17.78,16.98 17.728,16.98 17.624,16.994 17.522,17.021 17.425,17.061 17.335,17.113 17.251,17.177 17.177,17.251 17.113,17.335 17.061,17.425 17.021,17.522 16.994,17.624 16.98,17.728 16.98,17.78 16.98,17.832 16.994,17.936 17.021,18.038 17.061,18.135 17.113,18.225 17.177,18.309 17.251,18.383 17.335,18.447 17.425,18.499 17.522,18.539 17.624,18.566 17.728,18.58
  region: 17.78,21.12 20.177,21.122 20.177,19.522 17.78,19.52 17.728,19.52 17.624,19.534 17.522,19.561 17.425,19.601 17.335,19.653 17.251,19.717 17.177,19.791 17.113,19.875 17.061,19.965 17.021,20.062 16.994,20.164 16.98,20.268 16.98,20.32 16.98,20.372 16.994,20.476 17.021,20.578 17.061,20.675 17.113,20.765 17.177,20.849 17.251,20.923 17.335,20.987 17.425,21.039 17.522,21.079 17.624,21.106 17.728,21.12
  region: 17.78,23.66 20.177,23.662 20.177,22.062 17.78,22.06 17.728,22.06 17.624,22.074 17.522,22.101 17.425,22.141 17.335,22.193 17.251,22.257 17.177,22.331 17.113,22.415 17.061,22.505 17.021,22.602 16.994,22.704 16.98,22.808 16.98,22.86 16.98,22.912 16.994,23.016 17.021,23.118 17.061,23.215 17.113,23.305 17.177,23.389 17.251,23.463 17.335,23.527 17.425,23.579 17.522,23.619 17.624,23.646 17.728,23.66
  region: 17.78,26.2 20.177,26.202 20.177,24.602 17.78,24.6 17.728,24.6 17.624,24.614 17.522,24.641 17.425,24.681 17.335,24.733 17.251,24.797 17.177,24.871 17.113,24.955 17.061,25.045 17.021,25.142 16.994,25.244 16.98,25.348 16.98,25.4 16.98,25.452 16.994,25.556 17.021,25.658 17.061,25.755 17.113,25.845 17.177,25.929 17.251,26.003 17.335,26.067 17.425,26.119 17.522,26.159 17.624,26.186 17.728,26.2
  region: 17.78,28.74 20.177,28.742 20.177,27.142 17.78,27.14 17.728,27.14 17.624,27.154 17.522,27.181 17.425,27.221 17.335,27.273 17.251,27.337 17.177,27.411 17.113,27.495 17.061,27.585 17.021,27.682 16.994,27.784 16.98,27.888 16.98,27.94 16.98,27.992 16.994,28.096 17.021,28.198 17.061,28.295 17.113,28.385 17.177,28.469 17.251,28.543 17.335,28.607 17.425,28.659 17.522,28.699 17.624,28.726 17.728,28.74
  region: 17.78,31.28 20.177,31.282 20.177,29.682 17.78,29.68 17.728,29.68 17.624,29.694 17.522,29.721 17.425,29.761 17.335,29.813 17.251,29.877 17.177,29.951 17.113,30.035 17.061,30.125 17.021,30.222 16.994,30.324 16.98,30.428 16.98,30.48 16.98,30.532 16.994,30.636 17.021,30.738 17.061,30.835 17.113,30.925 17.177,31.009 17.251,31.083 17.335,31.147 17.425,31.199 17.522,31.239 17.624,31.266 17.728,31.28
  region: 17.78,33.82 20.177,33.822 20.177,32.222 17.78,32.22 17.728,32.22 17.624,32.234 17.522,32.261 17.425,32.301 17.335,32.353 17.251,32.417 17.177,32.491 17.113,32.575 17.061,32.665 17.021,32.762 16.994,32.864 16.98,32.968 16.98,33.02 16.98,33.072 16.994,33.176 17.021,33.278 17.061,33.375 17.113,33.465 17.177,33.549 17.251,33.623 17.335,33.687 17.425,33.739 17.522,33.779 17.624,33.806 17.728,33.82
  region: 17.78,36.36 20.177,36.362 20.177,34.762 17.78,34.76 17.728,34.76 17.624,34.774 17.522,34.801 17.425,34.841 17.335,34.893 17.251,34.957 17.177,35.031 17.113,35.115 17.061,35.205 17.021,35.302 16.994,35.404 16.98,35.508 16.98,35.56 16.98,35.612 16.994,35.716 17.021,35.818 17.061,35.915 17.113,36.005 17.177,36.089 17.251,36.163 17.335,36.227 17.425,36.279 17.522,36.319 17.624,36.346 17.728,36.36
  region: 17.78,38.9 20.177,38.902 20.177,37.302 17.78,37.3 17.728,37.3 17.624,37.314 17.522,37.341 17.425,37.381 17.335,37.433 17.251,37.497 17.177,37.571 17.113,37.655 17.061,37.745 17.021,37.842 16.994,37.944 16.98,38.048 16.98,38.1 16.98,38.152 16.994,38.256 17.021,38.358 17.061,38.455 17.113,38.545 17.177,38.629 17.251,38.703 17.335,38.767 17.425,38.819 17.522,38.859 17.624,38.886 17.728,38.9
  region: 17.78,41.44 20.177,41.442 20.177,39.842 17.78,39.84 17.728,39.84 17.624,39.854 17.522,39.881 17.425,39.921 17.335,39.973 17.251,40.037 17.177,40.111 17.113,40.195 17.061,40.285 17.021,40.382 16.994,40.484 16.98,40.588 16.98,40.64 16.98,40.692 16.994,40.796 17.021,40.898 17.061,40.995 17.113,41.085 17.177,41.169 17.251,41.243 17.335,41.307 17.425,41.359 17.522,41.399 17.624,41.426 17.728,41.44
  region: 17.78,43.98 20.177,43.982 20.177,42.382 17.78,42.38 17.728,42.38 17.624,42.394 17.522,42.421 17.425,42.461 17.335,42.513 17.251,42.577 17.177,42.651 17.113,42.735 17.061,42.825 17.021,42.922 16.994,43.024 16.98,43.128 16.98,43.18 16.98,43.232 16.994,43.336 17.021,43.438 17.061,43.535 17.113,43.625 17.177,43.709 17.251,43.783 17.335,43.847 17.425,43.899 17.522,43.939 17.624,43.966 17.728,43.98
  region: 17.78,46.52 20.177,46.522 20.177,44.922 17.78,44.92 17.728,44.92 17.624,44.934 17.522,44.961 17.425,45.001 17.335,45.053 17.251,45.117 17.177,45.191 17.113,45.275 17.061,45.365 17.021,45.462 16.994,45.564 16.98,45.668 16.98,45.72 16.98,45.772 16.994,45.876 17.021,45.978 17.061,46.075 17.113,46.165 17.177,46.249 17.251,46.323 17.335,46.387 17.425,46.439 17.522,46.479 17.624,46.506 17.728,46.52
  region: 17.78,49.06 20.177,49.062 20.177,47.462 17.78,47.46 17.728,47.46 17.624,47.474 17.522,47.501 17.425,47.541 17.335,47.593 17.251,47.657 17.177,47.731 17.113,47.815 17.061,47.905 17.021,48.002 16.994,48.104 16.98,48.208 16.98,48.26 16.98,48.312 16.994,48.416 17.021,48.518 17.061,48.615 17.113,48.705 17.177,48.789 17.251,48.863 17.335,48.927 17.425,48.979 17.522,49.019 17.624,49.046 17.728,49.06
  region: 17.78,0.8 20.177,0.802 20.177,-0.798 17.78,-0.8 17.728,-0.8 17.624,-0.786 17.522,-0.759 17.425,-0.719 17.335,-0.667 17.251,-0.603 17.177,-0.529 17.113,-0.445 17.061,-0.355 17.021,-0.258 16.994,-0.156 16.98,-0.052 16.98,0 16.98,0.052 16.994,0.156 17.021,0.258 17.061,0.355 17.113,0.445 17.177,0.529 17.251,0.603 17.335,0.667 17.425,0.719 17.522,0.759 17.624,0.786 17.728,0.8
  region: 0,47.46 -2.397,47.458 -2.397,49.058 0,49.06 0.052,49.06 0.156,49.046 0.258,49.019 0.355,48.979 0.445,48.927 0.529,48.863 0.603,48.789 0.667,48.705 0.719,48.615 0.759,48.518 0.786,48.416 0.8,48.312 0.8,48.26 0.8,48.208 0.786,48.104 0.759,48.002 0.719,47.905 0.667,47.815 0.603,47.731 0.529,47.657 0.445,47.593 0.355,47.541 0.258,47.501 0.156,47.474 0.052,47.46
Top Overlay:
  circle w0.2: c-3.297,48.258 r0.1
  lines w0.2: -1.607,-1.122 -1.607,-1.372 1.893,-1.372 ; -1.607,49.378 -1.607,49.628 19.393,49.628 19.393,49.378 ; 15.893,-1.372 19.393,-1.372 19.393,-1.122
Keep-Out Layer:
  board cut-out: 15.893,-1.372 1.893,-1.372 1.893,7.628 15.893,7.628
Mechanical 13:
  circle w0.2: c-3.297,48.258 r0.1
  lines w0.127: 4.893,49.628 -1.607,49.628 -1.607,-1.372 1.893,-1.372 1.893,7.628 15.893,7.628 15.893,-1.372 19.393,-1.372 19.393,49.628 12.893,49.628 ; 4.893,49.628 4.893,50.928 12.893,50.928 12.893,49.628 ; 4.893,49.628 12.893,49.628
Mechanical 15:
  lines w0.05: -2.647,-1.622 -2.647,51.178 20.433,51.178 20.433,-1.622 -2.647,-1.622
3D body "step_temp.STEP": height 3.6, standoff 0, extent -1.607,-1.372 19.393,50.928

## MOLX-22-28-4033_V [mm] "THD, 3-Leads, Body 7.62x2.49mm, Pitch 2.54mm"
height 8.38
pads (3):
  rect 1.55x1.55 hole 1.02: 1(-2.54,0)
  round 1.55 hole 1.02: 2(0,0) 3(2.54,0)
Top Overlay:
  circle w0.25: c-4.46,0 r0.125
  lines w0.2: -3.81,-1.245 -3.81,1.245 3.81,1.245 3.81,-1.245 -3.81,-1.245
Mechanical 13:
  lines w0.1: -3.81,-1.245 -3.81,1.245 3.81,1.245 3.81,-1.245 -3.81,-1.245
Mechanical 15:
  lines w0.05: -3.91,-1.345 3.91,-1.345 3.91,1.345 -3.91,1.345 -3.91,-1.345
  lines w0.1: -0.5,0 0.5,0 ; 0,-0.5 0,0.5
3D body "022284033.stp": height 8.38, standoff -3.18, extent -3.81,-1.245 3.81,1.245

## MOLX-5033981892_V [mm] "CONN, 8-Leads, Body 14.05x13.2mm, Pitch 1.1mm"
height 1.4
pads (14):
  rrect20% 0.7x1.1 smd mask+0.05: 1(-2.38,6.27) 2(-1.28,6.27) 3(-0.18,6.27) 4(0.92,6.27) 5(2.02,6.27) 6(3.12,6.27) 7(4.22,6.27) 8(5.32,6.27)
  rrect20% 1.05x0.78 smd mask+0.05: 9(0.095,-6.27)
  rrect20% 0.9x0.93 smd mask+0.05: 10(-4.17,-6.195)
  rrect20% 0.86x2.8 smd mask+0.05: 11(6.4,5.77)
  rrect20% 0.7x3.3 smd mask+0.05: 12(6.48,-5.01)
  rrect25% 0.7x3.3 smd mask+0.05: 13(-6.48,-5.01)
  rrect20% 1.04x1.83 smd mask+0.05: 14(-6.21,6.255)
Top Layer keep-out:
  rectangle: -6.83,-0.63 -6.13,1.77
  rectangle: -5.235,-6.08 -4.685,-3.93
  rectangle: -3.22,-6.28 -2.67,-5.73
  region: 6.83,4.191 6.83,-3.23 5.969,-3.23 5.969,-5.715 -0.635,-5.715 -0.635,-6.66 -1.73,-6.66 -1.73,-4.48 0.57,-4.48 0.57,-3.23 -3.82,-3.23 -3.82,-0.63 -3.17,-0.63 -3.17,4.191
Top Overlay:
  region: -2.18,7.5 -2.58,7.5 -2.38,7.1
  lines w0.15: -6.6,-2.96 -6.6,4.94 ; -5.73,-6.38 -5.02,-6.38 ; -3.32,-6.38 -0.83,-6.38 ; 1.02,-6.38 5.73,-6.38 ; 6.6,-2.96 6.6,3.97 ; -2.58,7.5 -2.18,7.5 -2.38,7.1 -2.58,7.5
Top Courtyard:
  lines w0.05: -7,-6.8 7,-6.8 7,7.8 -7,7.8 -7,-6.8
  lines w0.1: -0.5,0 0.5,0 ; 0,-0.5 0,0.5
Top Assembly:
  lines w0.1: -6.6,-6.38 -6.6,7.67 6.6,7.67 6.6,-6.38 -6.6,-6.38
Top Designator:
  text ".Designator" at -4.318,1.27 h0.6
3D body "5033981892.stp": height 1.28, standoff 0, extent -6.55,-6.38 6.55,7.67

## New footprint 1 [mm]
pads (2):
  round 0.3 smd paste+0 mask+0: 1(0,0) 2(1.27,0)
Top Layer:
  lines w0.3: 0,0 1.27,0

## New footprint 1_2 [mil]
pads (16):
  rect 65x65 hole 35: 1(-450,350) 16(450,350)
  round 65 hole 35: 2(-450,250) 3(-450,150) 4(-450,50) 5(-450,-50) 6(-450,-150) 7(-450,-250) 8(-450,-350) 9(450,-350) 10(450,-250) 11(450,-150) 12(450,-50) 13(450,50) 14(450,150) 15(450,250)
Top Overlay:
  drawing of 2459 lines, arcs and shapes, not listed
  text "SDA/GP4" at 113.37,-168.35 h59.06
  text "RST/GP20" at -332.86,231.65 h59.06
  text "CS/GP22" at -332.86,131.65 h59.06
  text "MISO" at -332.86,-68.35 h59.06
  text "SCK/GP18" at -332.86,31.65 h59.06
  text "MOSI" at -332.86,-168.35 h59.06
  text "+3.3V" at -332.86,-268.35 h59.06
  text "GND" at -332.86,-368.35 h59.06
  text "SCL/GP5" at 122.58,-68.35 h59.06
  text "INT/GP21" at 122.05,232.28 h59.06
  text "RX/GP9" at 157.76,131.65 h59.06
  text "TX/GP8" at 161.26,31.65 h59.06
  text "GND" at 229.14,-368.35 h59.06
  text "NC" at 272.81,-268.35 h59.06
  text "AN/GP27" at -332.86,331.65 h59.06
  text "PWM/GP7" at 102.36,330.71 h59.06
Mechanical 15:
  circle w2: c0,0 r46.89
  lines w2: -100,0 100,0 ; 0,-100 0,100
3D body "mikroBUS_TH_Black.stp": height 433.62, standoff -107.77, extent -496.94,-500.66 503.84,400.67